# EAGLE library part HDMI-A (library connectors)
Horizonal HDMI type "A" jack
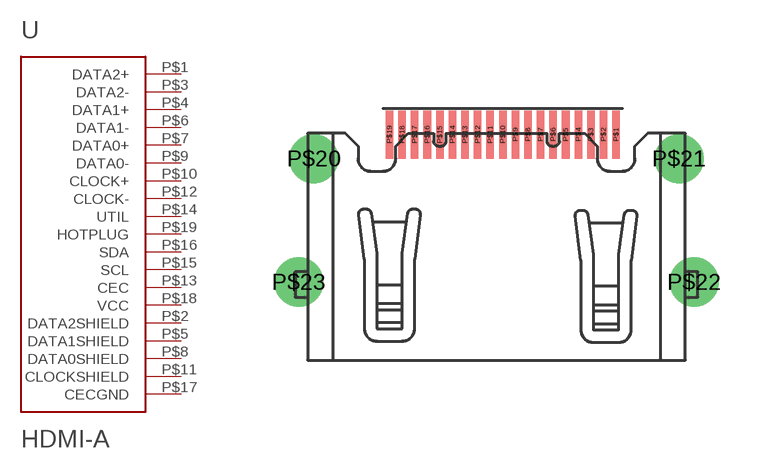
[diagram p3: symbol with the pads of HDMI_A; footprint HDMI_A]

Designator prefix -

## HDMI-A  [HDMI_A]
P$1  DATA2+
P$2  DATA2SHIELD
P$3  DATA2-
P$4  DATA1+
P$5  DATA1SHIELD
P$6  DATA1-
P$7  DATA0+
P$8  DATA0SHIELD
P$9  DATA0-
P$10  CLOCK+
P$11  CLOCKSHIELD
P$12  CLOCK-
P$13  CEC
P$14  UTIL
P$15  SCL
P$16  SDA
P$17  CECGND
P$18  VCC
P$19  HOTPLUG

## Footprint HDMI_A (pad centres in mm)
smd 0.3 x 1.9: P$1 4.75,3.95; P$2 4.25,3.95; P$3 3.75,3.95; P$4 3.25,3.95; P$5 2.75,3.95; P$6 2.25,3.95; P$7 1.75,3.95; P$8 1.25,3.95; P$9 0.75,3.95; P$10 0.25,3.95; P$11 -0.25,3.95; P$12 -0.75,3.95; P$13 -1.25,3.95; P$14 -1.75,3.95; P$15 -2.25,3.95; P$16 -2.75,3.95; P$17 -3.25,3.95; P$18 -3.75,3.95; P$19 -4.25,3.95
drill 1.3: P$20 -7.25,3; P$21 7.25,3; P$22 7.85,-1.9; P$23 -7.85,-1.9